# Altium schematic symbol library SN6505BDBVR.Schlib: 1 symbol
Pins are listed as number, name and electrical type; pins without a type are passive.

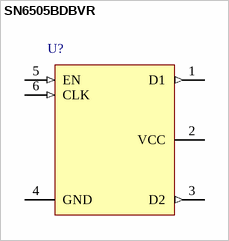
[diagram p0: symbol SN6505BDBVR]

## SN6505BDBVR
designator U?
pins: 1 D1 (out), 2 VCC (power), 3 D2 (out), 4 GND (power), 5 EN (in), 6 CLK (in)